# EAGLE library part DRV8833 (library DRV8833)
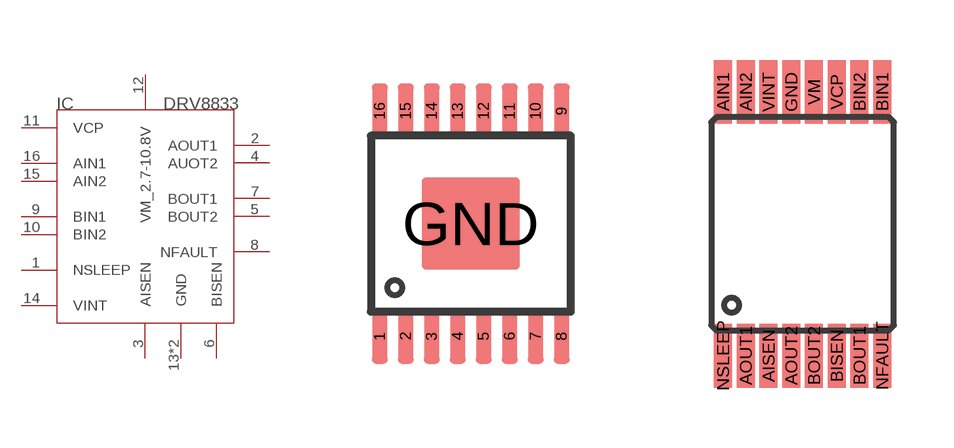
[diagram p0: symbol with the pads of HTSSOP; footprints HTSSOP, TSSOP]

Designator prefix IC

## DRV8833PWP  [HTSSOP]
1  NSLEEP  in
2  AOUT1  out
3  AISEN  pas
4  AUOT2  out
5  BOUT2  out
6  BISEN  pas
7  BOUT1  out
8  NFAULT  oc
9  BIN1  in
10  BIN2  in
11  VCP  pas
12  VM_2.7-10.8V  pwr
13  GND  pwr
14  VINT  pas
15  AIN2  in
16  AIN1  in
GND  GND  pwr

## DRV8833PW  [TSSOP]
AIN1  AIN1  in
AIN2  AIN2  in
AISEN  AISEN  pas
AOUT1  AOUT1  out
AOUT2  AUOT2  out
BIN1  BIN1  in
BIN2  BIN2  in
BISEN  BISEN  pas
BOUT1  BOUT1  out
BOUT2  BOUT2  out
GND  GND  pwr
NFAULT  NFAULT  oc
NSLEEP  NSLEEP  in
VCP  VCP  pas
VINT  VINT  pas
VM  VM_2.7-10.8V  pwr

## Footprint HTSSOP (pad centres in mm)
smd 0.39 x 1.37: 1 -2.275,-2.82; 2 -1.625,-2.82; 3 -0.975,-2.82; 4 -0.325,-2.82; 5 0.325,-2.82; 6 0.975,-2.82; 7 1.625,-2.82; 8 2.275,-2.82; 9 2.275,2.82; 10 1.625,2.82; 11 0.975,2.82; 12 0.325,2.82; 13 -0.325,2.82; 14 -0.975,2.82; 15 -1.625,2.82; 16 -2.275,2.82
smd 2.46 x 2.31: GND 0,0

## Footprint TSSOP (pad centres in mm)
smd 0.45 x 1.6: AIN1 -1.991,3.3; AIN2 -1.422,3.3; AISEN -0.853,-3.3; AOUT1 -1.422,-3.3; AOUT2 -0.284,-3.3; BIN1 1.991,3.3; BIN2 1.422,3.3; BISEN 0.853,-3.3; BOUT1 1.422,-3.3; BOUT2 0.284,-3.3; GND -0.284,3.3; NFAULT 1.991,-3.3; NSLEEP -1.991,-3.3; VCP 0.853,3.3; VINT -0.853,3.3; VM 0.284,3.3